# EAGLE library part MIC2039 (library bschulz)
MIC2039 - Hight Side Load Switch, with Adjustable Current Limit Characteristics: Vin: 2.5v ~ 5.5v IQ: 0.75μA (OFF), 100μA (ON) RDS(ON): 75mΩ (Vin = 5v), 85mΩ (Vin = 3.3v) Output Current: 2.5A (Max, limit adj) Operating Temperature: -40°C to 125°C Digikey: 576-4147-1-ND (Active High, MT) <https://www.digikey.com/product-detail/en/microchip-technology/MIC2039AYMT-TR/576-4147-1-ND/3681017> 576-4145-1-ND (Active High, M6) <https://www.digikey.com/product-detail/en/microchip-technology/MIC2039AYM6-TR/576-4145-1-ND/3681015>
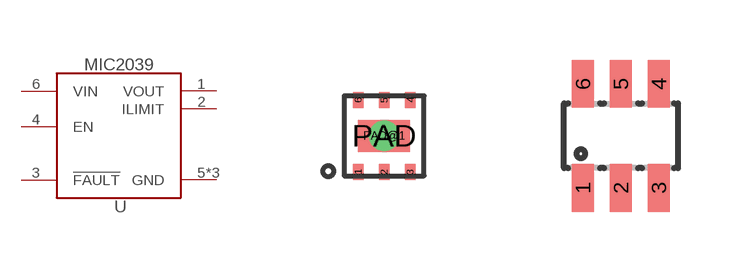
[diagram p66: symbol with the pads of DFN_6_2X2; footprints DFN_6_2X2, SOT23-6L]

Designator prefix U

## MIC2039MT (DIGIKEY: 576-4147-1-ND; MF: Microchip; MPN: MIC2039AYMT-TR)  [DFN_6_2X2]
1  VOUT  pwr
2  ILIMIT  in
3  !FAULT  out
4  EN  in
5  GND  pwr
6  VIN  pwr
PAD  GND  pwr
PAD@1  GND  pwr

## MIC2039M6 (DIGIKEY: 576-4145-1-ND; MF: Microchip; MPN: MIC2039AYM6-TR)  [SOT23-6L]
1  VIN  pwr
2  GND  pwr
3  EN  in
4  !FAULT  out
5  ILIMIT  in
6  VOUT  pwr

## Footprint DFN_6_2X2 (pad centres in mm)
DFN, 6 pin, 2x2mm, 0.65mm Pitch, Thin, MT
smd 0.26 x 0.4: 1 -0.65,-0.9; 2 0,-0.9; 3 0.65,-0.9; 4 0.65,0.9; 5 0,0.9; 6 -0.65,0.9
smd 1.3 x 0.8: PAD 0,0
drill 0.254 pad 0.305: PAD@1 0,0

## Footprint SOT23-6L (pad centres in mm)
Small Outline Transistor
smd 0.55 x 1.2: 1 -0.95,-1.3; 2 0,-1.3; 3 0.95,-1.3; 4 0.95,1.3; 5 0,1.3; 6 -0.95,1.3